# EAGLE library part LM25575 (library national-semi)
SIMPLE SWITCHER® 42V, 1.5A Step-Down Switching
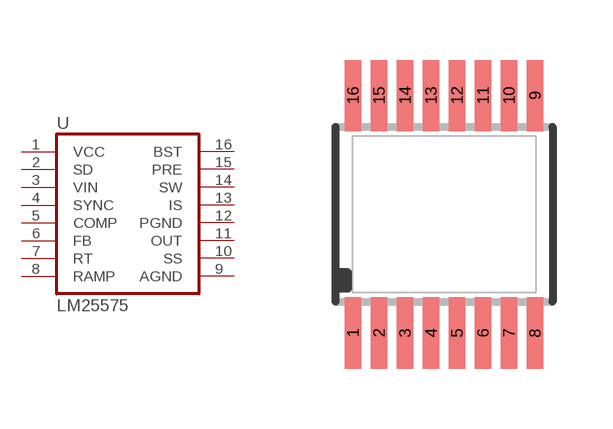
[diagram p0: symbol with the pads of TSSOP16-MXA16A; footprint TSSOP16-MXA16A]

Designator prefix U

## LM25575  [TSSOP16-MXA16A]
1  VCC  out
2  SD  in
3  VIN  sup
4  SYNC  pas
5  COMP  pas
6  FB  pas
7  RT  pas
8  RAMP  pas
9  AGND  pwr
10  SS  pas
11  OUT  pas
12  PGND  pwr
13  IS  pas
14  SW  pas
15  PRE  pas
16  BST  pas

## Footprint TSSOP16-MXA16A (pad centres in mm)
TSSOP16 - MXA16A Package Exposed pad variation
smd 0.42 x 1.78: 1 -2.275,-2.968; 2 -1.625,-2.968; 3 -0.975,-2.968; 4 -0.325,-2.968; 5 0.325,-2.968; 6 0.975,-2.968; 7 1.625,-2.968; 8 2.275,-2.968; 9 2.275,2.968; 10 1.625,2.968; 11 0.975,2.968; 12 0.325,2.968; 13 -0.325,2.968; 14 -0.975,2.968; 15 -1.625,2.968; 16 -2.275,2.968